# EAGLE library part MAX30100 (library OrlandoRonMod)
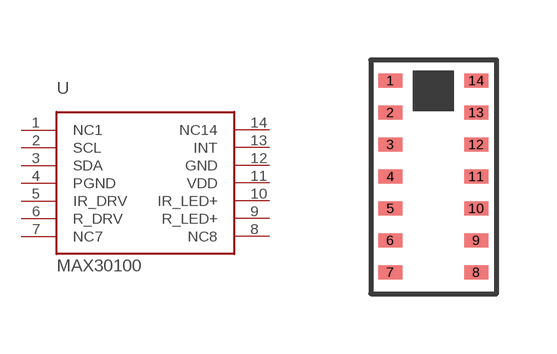
[diagram p24: symbol with the pads of OESIP14; footprint OESIP14]

Designator prefix -

## MAX30100  [OESIP14]
1  NC1
2  SCL
3  SDA
4  PGND
5  IR_DRV
6  R_DRV
7  NC7
8  NC8
9  R_LED+
10  IR_LED+
11  VDD
12  GND
13  INT
14  NC14

## Footprint OESIP14 (pad centres in mm)
smd 0.6 x 0.35: 1 -1.08,2.54; 2 -1.08,1.74; 3 -1.08,0.94; 4 -1.08,0.14; 5 -1.08,-0.66; 6 -1.08,-1.46; 7 -1.08,-2.26; 8 1.07,-2.26; 9 1.07,-1.46; 10 1.07,-0.66; 11 1.07,0.14; 12 1.07,0.94; 13 1.07,1.74; 14 1.07,2.54